# EAGLE library part BUTTONS (library DBCon)
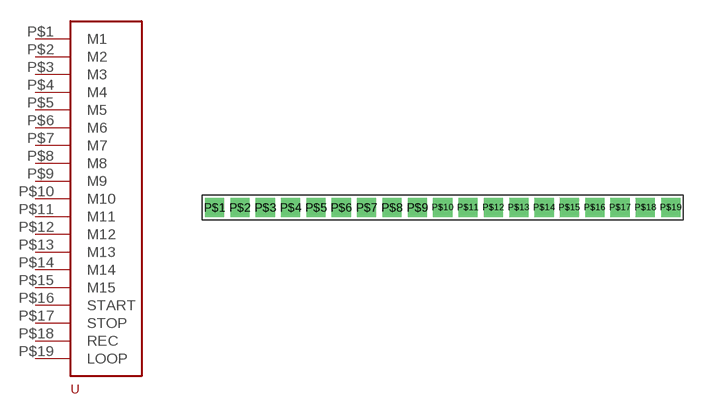
[diagram p5: symbol with the pads of CON19; footprint CON19]

Designator prefix -

## BUTTONS  [CON19]
P$1  M1
P$2  M2
P$3  M3
P$4  M4
P$5  M5
P$6  M6
P$7  M7
P$8  M8
P$9  M9
P$10  M10
P$11  M11
P$12  M12
P$13  M13
P$14  M14
P$15  M15
P$16  START
P$17  STOP
P$18  REC
P$19  LOOP

## Footprint CON19 (pad centres in mm)
drill 1 square: P$1 1,1; P$2 3,1; P$3 5,1; P$4 7,1; P$5 9,1; P$6 11,1; P$7 13,1; P$8 15,1; P$9 17,1; P$10 19,1; P$11 21,1; P$12 23,1; P$13 25,1; P$14 27,1; P$15 29,1; P$16 31,1; P$17 33,1; P$18 35,1; P$19 37,1